# Altium footprint library 2021-05-20_21-10-27.PcbLib: 3 footprints
Each footprint in its own frame and in the unit in brackets; x right, y up, seen from the top. Pads: shape width x height; smd on the part's side, far side on the other; paste and mask are expansions set on the pad; w line width, h text height; cw(c..) or ccw(c..) is an arc to the next point about the centre after c.
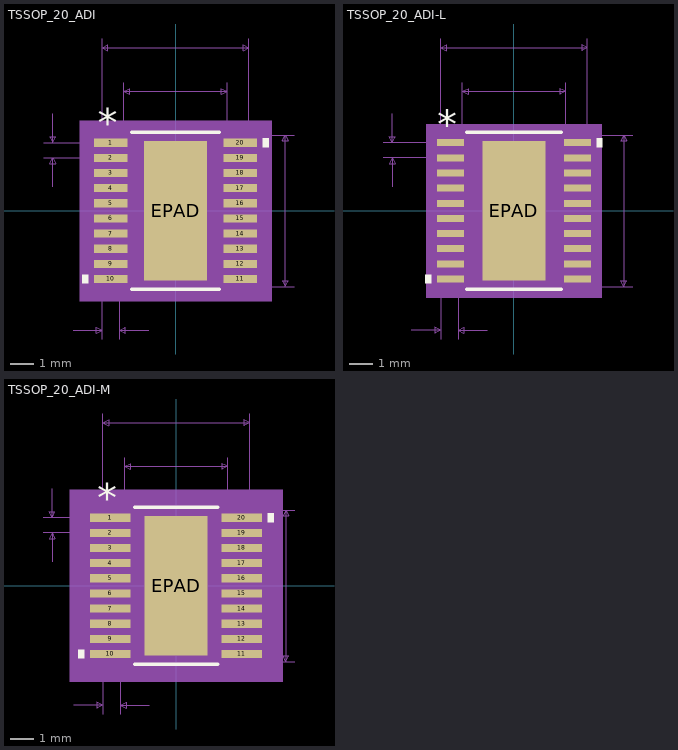
[diagram p0: the footprints below, top view; thin cyan lines are the x and y axes]

## TSSOP_20_ADI [mil]
pads (21):
  rect 57.56x13.97 smd paste+0 mask+0: 1(-111,117) 2(-111,91) 3(-111,65) 4(-111,39) 5(-111,13) 6(-111,-13) 7(-111,-39) 8(-111,-65) 9(-111,-91) 10(-111,-117) 11(111,-117) 12(111,-91) 13(111,-65) 14(111,-39) 15(111,-13) 16(111,13) 17(111,39) 18(111,65) 19(111,91) 20(111,117)
  rect 108x239 smd paste-119 mask+0: EPAD(0,0)
Top Overlay:
  region: -149.78,-109.5 -159.78,-109.5 -159.78,-124.5 -149.78,-124.5
  region: 149.78,124.5 159.78,124.5 159.78,109.5 149.78,109.5
  lines w6: -75.13,-135 75.13,-135 ; -75.13,135 75.13,135
  text "*" at -133.5,125.97 h50
Top Paste:
  region: -3.94,115.56 -50.06,115.56 -50.06,63.69 -3.94,63.69
  region: -3.94,55.81 -50.06,55.81 -50.06,3.94 -3.94,3.94
  region: -3.94,-3.94 -50.06,-3.94 -50.06,-55.81 -3.94,-55.81
  region: -3.94,-63.69 -50.06,-63.69 -50.06,-115.56 -3.94,-115.56
  region: 50.06,115.56 3.94,115.56 3.94,63.69 50.06,63.69
  region: 50.06,55.81 3.94,55.81 3.94,3.94 50.06,3.94
  region: 50.06,-3.94 3.94,-3.94 3.94,-55.81 50.06,-55.81
  region: 50.06,-63.69 3.94,-63.69 3.94,-115.56 50.06,-115.56
Mechanical 5:
  region: 164.78,-155 -164.78,-155 -164.78,155 164.78,155
Mechanical 7:
  lines w1: -226,91 -111,91 ; -226,117 -111,117 ; -211,41 -211,91 ; -211,167 -211,117 ; -176,-205 -126,-205 ; -126,-220 -126,0 -126,295 ; -96,-220 -96,0 ; -88.5,0 -88.5,220 ; -46,-205 -96,-205 ; 0,-130 203.5,-130 ; 0,130 203.5,130 ; 88.5,0 88.5,220 ; 126,0 126,295 ; -211,91 -216,81 -206,81 -211,91 ; -211,117 -216,127 -206,127 -211,117 ; -126,-205 -136,-200 -136,-210 -126,-205 ; -126,280 126,280 ; -126,280 -116,285 -116,275 -126,280 ; -96,-205 -86,-200 -86,-210 -96,-205 ; -88.5,205 88.5,205 ; -88.5,205 -78.5,210 -78.5,200 -88.5,205 ; 88.5,205 78.5,210 78.5,200 88.5,205 ; 126,280 116,285 116,275 126,280 ; 188.5,-130 188.5,130 ; 188.5,-130 183.5,-120 193.5,-120 188.5,-130 ; 188.5,130 183.5,120 193.5,120 188.5,130
  text "Default Padstyle: r146_35" at -312.5,-330 h50
  text "Pin One Padstyle: r146_35" at -312.5,-390 h50
  text "Heat Tab Padstyle: r274_607" at -337.5,-450 h50
  text "Alt 1 Padstyle: b152_229h76" at -337.5,-570 h50
  text "Alt 2 Padstyle: b229_152h76" at -337.5,-630 h50
  text "0.177in/4.496mm" at -93.75,225 h25
  text "0.252in/6.401mm" at -93.75,300 h25
  text "0.26in/6.604mm" at 208.5,-12.5 h25
  text "0.026in/0.66mm" at -406,91.5 h25
  text "0.03in/0.762mm" at -198.5,-250 h25
Mechanical 13:
  lines w0: -12,130 ccw(c0,130) 12,130
  lines w1: -126,-123 -126,-111 -88.5,-111 -88.5,-123 -126,-123 ; -126,-97 -126,-85 -88.5,-85 -88.5,-97 -126,-97 ; -126,-71 -126,-59 -88.5,-59 -88.5,-71 -126,-71 ; -126,-45 -126,-33 -88.5,-33 -88.5,-45 -126,-45 ; -126,-19 -126,-7 -88.5,-7 -88.5,-19 -126,-19 ; -126,7 -126,19 -88.5,19 -88.5,7 -126,7 ; -126,33 -126,45 -88.5,45 -88.5,33 -126,33 ; -126,59 -126,71 -88.5,71 -88.5,59 -126,59 ; -126,85 -126,97 -88.5,97 -88.5,85 -126,85 ; -126,111 -126,123 -88.5,123 -88.5,111 -126,111 ; -88.5,-130 88.5,-130 88.5,130 -88.5,130 -88.5,-130 ; 88.5,-123 88.5,-111 126,-111 126,-123 88.5,-123 ; 88.5,-97 88.5,-85 126,-85 126,-97 88.5,-97 ; 88.5,-71 88.5,-59 126,-59 126,-71 88.5,-71 ; 88.5,-45 88.5,-33 126,-33 126,-45 88.5,-45 ; 88.5,-19 88.5,-7 126,-7 126,-19 88.5,-19 ; 88.5,7 88.5,19 126,19 126,7 88.5,7 ; 88.5,33 88.5,45 126,45 126,33 88.5,33 ; 88.5,59 88.5,71 126,71 126,59 88.5,59 ; 88.5,85 88.5,97 126,97 126,85 88.5,85 ; 88.5,111 88.5,123 126,123 126,111 88.5,111
  text "*" at -86,77 h50
Mechanical 15:
  region: -98.5,-133.98 -149.78,-133.98 -149.78,133.98 -98.5,133.98 -98.5,140 98.5,140 98.5,133.98 149.78,133.98 149.78,-133.98 98.5,-133.98 98.5,-140 -98.5,-140
  lines w6: -149.78,-133.98 -149.78,133.98 -98.5,133.98 -98.5,140 98.5,140 98.5,133.98 149.78,133.98 149.78,-133.98 98.5,-133.98 98.5,-140 -98.5,-140 -98.5,-133.98 -149.78,-133.98
3D body: height 10, standoff 0, extent 0,0 10,10
3D body "TSSOP_20_ADI.step": height 47.09, standoff 0, extent -125.98,-130 125.99,130

## TSSOP_20_ADI-L [mil]
pads (21):
  rect 45.75x12 smd paste+0 mask+0: 1(-109.03,117) 2(-109.03,91) 3(-109.03,65) 4(-109.03,39) 5(-109.03,13) 6(-109.03,-13) 7(-109.03,-39) 8(-109.03,-65) 9(-109.03,-91) 10(-109.03,-117) 11(109.03,-117) 12(109.03,-91) 13(109.03,-65) 14(109.03,-39) 15(109.03,-13) 16(109.03,13) 17(109.03,39) 18(109.03,65) 19(109.03,91) 20(109.03,117)
  rect 108x239 smd paste-119 mask+0: EPAD(0,0)
Top Overlay:
  region: -141.91,-109.5 -151.91,-109.5 -151.91,-124.5 -141.91,-124.5
  region: 141.91,124.5 151.91,124.5 151.91,109.5 141.91,109.5
  lines w6: -80.9,-135 80.9,-135 ; -80.9,135 80.9,135
  text "*" at -131.53,124 h50
Top Paste:
  region: -3.94,115.56 -50.06,115.56 -50.06,63.69 -3.94,63.69
  region: -3.94,55.81 -50.06,55.81 -50.06,3.94 -3.94,3.94
  region: -3.94,-3.94 -50.06,-3.94 -50.06,-55.81 -3.94,-55.81
  region: -3.94,-63.69 -50.06,-63.69 -50.06,-115.56 -3.94,-115.56
  region: 50.06,115.56 3.94,115.56 3.94,63.69 50.06,63.69
  region: 50.06,55.81 3.94,55.81 3.94,3.94 50.06,3.94
  region: 50.06,-3.94 3.94,-3.94 3.94,-55.81 50.06,-55.81
  region: 50.06,-63.69 3.94,-63.69 3.94,-115.56 50.06,-115.56
Mechanical 5:
  region: 150.91,-149 -150.91,-149 -150.91,149 150.91,149
Mechanical 7:
  lines w1: -224.03,91 -109.03,91 ; -224.03,117 -109.03,117 ; -209.03,41 -209.03,91 ; -209.03,167 -209.03,117 ; -176,-205 -126,-205 ; -126,-220 -126,0 -126,295 ; -96,-220 -96,0 ; -88.5,0 -88.5,220 ; -46,-205 -96,-205 ; 0,-130 203.5,-130 ; 0,130 203.5,130 ; 88.5,0 88.5,220 ; 126,0 126,295 ; -209.03,91 -214.03,81 -204.03,81 -209.03,91 ; -209.03,117 -214.03,127 -204.03,127 -209.03,117 ; -126,-205 -136,-200 -136,-210 -126,-205 ; -126,280 126,280 ; -126,280 -116,285 -116,275 -126,280 ; -96,-205 -86,-200 -86,-210 -96,-205 ; -88.5,205 88.5,205 ; -88.5,205 -78.5,210 -78.5,200 -88.5,205 ; 88.5,205 78.5,210 78.5,200 88.5,205 ; 126,280 116,285 116,275 126,280 ; 188.5,-130 188.5,130 ; 188.5,-130 183.5,-120 193.5,-120 188.5,-130 ; 188.5,130 183.5,120 193.5,120 188.5,130
  text "Default Padstyle: r116_30" at -312.5,-330 h50
  text "Pin One Padstyle: r116_30" at -312.5,-390 h50
  text "Heat Tab Padstyle: r274_607" at -337.5,-450 h50
  text "Alt 1 Padstyle: b152_229h76" at -337.5,-570 h50
  text "Alt 2 Padstyle: b229_152h76" at -337.5,-630 h50
  text "0.177in/4.496mm" at -93.75,225 h25
  text "0.252in/6.401mm" at -93.75,300 h25
  text "0.26in/6.604mm" at 208.5,-12.5 h25
  text "0.026in/0.66mm" at -404.03,91.5 h25
  text "0.03in/0.762mm" at -198.5,-250 h25
Mechanical 13:
  lines w0: -12,130 ccw(c0,130) 12,130
  lines w1: -126,-123 -126,-111 -88.5,-111 -88.5,-123 -126,-123 ; -126,-97 -126,-85 -88.5,-85 -88.5,-97 -126,-97 ; -126,-71 -126,-59 -88.5,-59 -88.5,-71 -126,-71 ; -126,-45 -126,-33 -88.5,-33 -88.5,-45 -126,-45 ; -126,-19 -126,-7 -88.5,-7 -88.5,-19 -126,-19 ; -126,7 -126,19 -88.5,19 -88.5,7 -126,7 ; -126,33 -126,45 -88.5,45 -88.5,33 -126,33 ; -126,59 -126,71 -88.5,71 -88.5,59 -126,59 ; -126,85 -126,97 -88.5,97 -88.5,85 -126,85 ; -126,111 -126,123 -88.5,123 -88.5,111 -126,111 ; -88.5,-130 88.5,-130 88.5,130 -88.5,130 -88.5,-130 ; 88.5,-123 88.5,-111 126,-111 126,-123 88.5,-123 ; 88.5,-97 88.5,-85 126,-85 126,-97 88.5,-97 ; 88.5,-71 88.5,-59 126,-59 126,-71 88.5,-71 ; 88.5,-45 88.5,-33 126,-33 126,-45 88.5,-45 ; 88.5,-19 88.5,-7 126,-7 126,-19 88.5,-19 ; 88.5,7 88.5,19 126,19 126,7 88.5,7 ; 88.5,33 88.5,45 126,45 126,33 88.5,33 ; 88.5,59 88.5,71 126,71 126,59 88.5,59 ; 88.5,85 88.5,97 126,97 126,85 88.5,85 ; 88.5,111 88.5,123 126,123 126,111 88.5,111
  text "*" at -86,77 h50
Mechanical 15:
  region: -92.5,-127 -135.91,-127 -135.91,127 -92.5,127 -92.5,134 92.5,134 92.5,127 135.91,127 135.91,-127 92.5,-127 92.5,-134 -92.5,-134
  lines w6: -135.91,-127 -135.91,127 -92.5,127 -92.5,134 92.5,134 92.5,127 135.91,127 135.91,-127 92.5,-127 92.5,-134 -92.5,-134 -92.5,-127 -135.91,-127
3D body: height 10, standoff 0, extent 0,0 10,10

## TSSOP_20_ADI-M [mil]
pads (21):
  rect 69.37x13.97 smd paste+0 mask+0: 1(-112.97,117) 2(-112.97,91) 3(-112.97,65) 4(-112.97,39) 5(-112.97,13) 6(-112.97,-13) 7(-112.97,-39) 8(-112.97,-65) 9(-112.97,-91) 10(-112.97,-117) 11(112.97,-117) 12(112.97,-91) 13(112.97,-65) 14(112.97,-39) 15(112.97,-13) 16(112.97,13) 17(112.97,39) 18(112.97,65) 19(112.97,91) 20(112.97,117)
  rect 108x239 smd paste-119 mask+0: EPAD(0,0)
Top Overlay:
  region: -157.65,-109.5 -167.65,-109.5 -167.65,-124.5 -157.65,-124.5
  region: 157.65,124.5 167.65,124.5 167.65,109.5 157.65,109.5
  lines w6: -71.19,-135 71.19,-135 ; -71.19,135 71.19,135
  text "*" at -135.47,125.97 h50
Top Paste:
  region: -3.94,115.56 -50.06,115.56 -50.06,63.69 -3.94,63.69
  region: -3.94,55.81 -50.06,55.81 -50.06,3.94 -3.94,3.94
  region: -3.94,-3.94 -50.06,-3.94 -50.06,-55.81 -3.94,-55.81
  region: -3.94,-63.69 -50.06,-63.69 -50.06,-115.56 -3.94,-115.56
  region: 50.06,115.56 3.94,115.56 3.94,63.69 50.06,63.69
  region: 50.06,55.81 3.94,55.81 3.94,3.94 50.06,3.94
  region: 50.06,-3.94 3.94,-3.94 3.94,-55.81 50.06,-55.81
  region: 50.06,-63.69 3.94,-63.69 3.94,-115.56 50.06,-115.56
Mechanical 5:
  region: 182.65,-165 -182.65,-165 -182.65,165 182.65,165
Mechanical 7:
  lines w1: -227.97,91 -112.97,91 ; -227.97,117 -112.97,117 ; -212.97,41 -212.97,91 ; -212.97,167 -212.97,117 ; -176,-205 -126,-205 ; -126,-220 -126,0 -126,295 ; -96,-220 -96,0 ; -88.5,0 -88.5,220 ; -46,-205 -96,-205 ; 0,-130 203.5,-130 ; 0,130 203.5,130 ; 88.5,0 88.5,220 ; 126,0 126,295 ; -212.97,91 -217.97,81 -207.97,81 -212.97,91 ; -212.97,117 -217.97,127 -207.97,127 -212.97,117 ; -126,-205 -136,-200 -136,-210 -126,-205 ; -126,280 126,280 ; -126,280 -116,285 -116,275 -126,280 ; -96,-205 -86,-200 -86,-210 -96,-205 ; -88.5,205 88.5,205 ; -88.5,205 -78.5,210 -78.5,200 -88.5,205 ; 88.5,205 78.5,210 78.5,200 88.5,205 ; 126,280 116,285 116,275 126,280 ; 188.5,-130 188.5,130 ; 188.5,-130 183.5,-120 193.5,-120 188.5,-130 ; 188.5,130 183.5,120 193.5,120 188.5,130
  text "Default Padstyle: r176_35" at -312.5,-330 h50
  text "Pin One Padstyle: r176_35" at -312.5,-390 h50
  text "Heat Tab Padstyle: r274_607" at -337.5,-450 h50
  text "Alt 1 Padstyle: b152_229h76" at -337.5,-570 h50
  text "Alt 2 Padstyle: b229_152h76" at -337.5,-630 h50
  text "0.177in/4.496mm" at -93.75,225 h25
  text "0.252in/6.401mm" at -93.75,300 h25
  text "0.26in/6.604mm" at 208.5,-12.5 h25
  text "0.026in/0.66mm" at -407.97,91.5 h25
  text "0.03in/0.762mm" at -198.5,-250 h25
Mechanical 13:
  lines w0: -12,130 ccw(c0,130) 12,130
  lines w1: -126,-123 -126,-111 -88.5,-111 -88.5,-123 -126,-123 ; -126,-97 -126,-85 -88.5,-85 -88.5,-97 -126,-97 ; -126,-71 -126,-59 -88.5,-59 -88.5,-71 -126,-71 ; -126,-45 -126,-33 -88.5,-33 -88.5,-45 -126,-45 ; -126,-19 -126,-7 -88.5,-7 -88.5,-19 -126,-19 ; -126,7 -126,19 -88.5,19 -88.5,7 -126,7 ; -126,33 -126,45 -88.5,45 -88.5,33 -126,33 ; -126,59 -126,71 -88.5,71 -88.5,59 -126,59 ; -126,85 -126,97 -88.5,97 -88.5,85 -126,85 ; -126,111 -126,123 -88.5,123 -88.5,111 -126,111 ; -88.5,-130 88.5,-130 88.5,130 -88.5,130 -88.5,-130 ; 88.5,-123 88.5,-111 126,-111 126,-123 88.5,-123 ; 88.5,-97 88.5,-85 126,-85 126,-97 88.5,-97 ; 88.5,-71 88.5,-59 126,-59 126,-71 88.5,-71 ; 88.5,-45 88.5,-33 126,-33 126,-45 88.5,-45 ; 88.5,-19 88.5,-7 126,-7 126,-19 88.5,-19 ; 88.5,7 88.5,19 126,19 126,7 88.5,7 ; 88.5,33 88.5,45 126,45 126,33 88.5,33 ; 88.5,59 88.5,71 126,71 126,59 88.5,59 ; 88.5,85 88.5,97 126,97 126,85 88.5,85 ; 88.5,111 88.5,123 126,123 126,111 88.5,111
  text "*" at -86,77 h50
Mechanical 15:
  region: -108.5,-143.98 -167.65,-143.98 -167.65,143.98 -108.5,143.98 -108.5,150 108.5,150 108.5,143.98 167.65,143.98 167.65,-143.98 108.5,-143.98 108.5,-150 -108.5,-150
  lines w6: -167.65,-143.98 -167.65,143.98 -108.5,143.98 -108.5,150 108.5,150 108.5,143.98 167.65,143.98 167.65,-143.98 108.5,-143.98 108.5,-150 -108.5,-150 -108.5,-143.98 -167.65,-143.98
3D body: height 10, standoff 0, extent 0,0 10,10